# Altium footprint library ERM8-040-XX-X-D-RA_3D.PcbLib: 1 footprints
Each footprint in its own frame and in the unit in brackets; x right, y up, seen from the top. Pads: shape width x height; smd on the part's side, far side on the other; paste and mask are expansions set on the pad; w line width, h text height; cw(c..) or ccw(c..) is an arc to the next point about the centre after c.
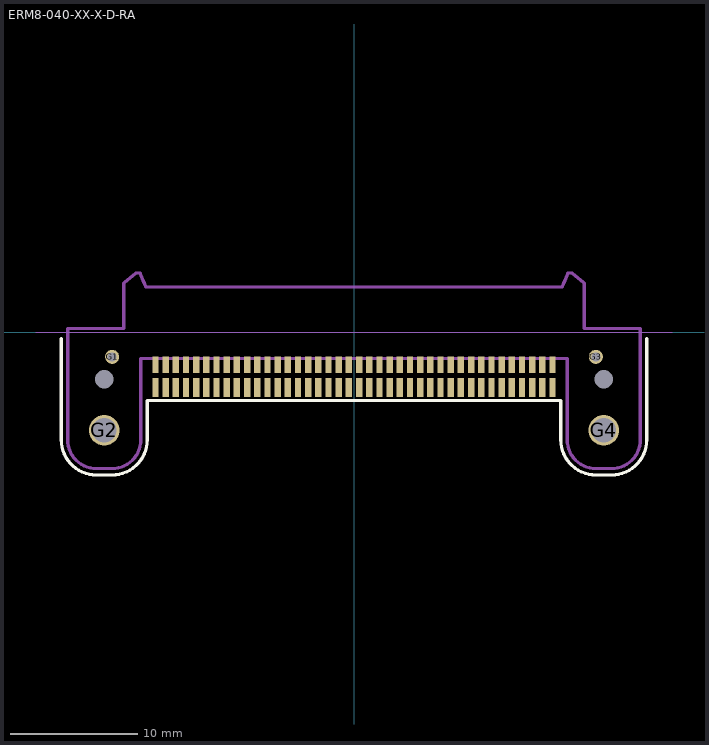
[diagram p0: the footprint, top view; thin cyan lines are the x and y axes]

## ERM8-040-XX-X-D-RA [mm]
pads (86):
  rect 0.5x1.3 smd mask+0.05: 1(-15.6,-2.54) 3(-14.8,-2.54) 5(-14,-2.54) 7(-13.2,-2.54) 9(-12.4,-2.54) 11(-11.6,-2.54) 13(-10.8,-2.54) 15(-10,-2.54) 17(-9.2,-2.54) 19(-8.4,-2.54) 21(-7.6,-2.54) 23(-6.8,-2.54) 25(-6,-2.54) 27(-5.2,-2.54) 29(-4.4,-2.54) 31(-3.6,-2.54) 33(-2.8,-2.54) 35(-2,-2.54) 37(-1.2,-2.54) 39(-0.4,-2.54) 41(0.4,-2.54) 43(1.2,-2.54) 45(2,-2.54) 47(2.8,-2.54) 49(3.6,-2.54) 51(4.4,-2.54) 53(5.2,-2.54) 55(6,-2.54) 57(6.8,-2.54) 59(7.6,-2.54) 61(8.4,-2.54) 63(9.2,-2.54) 65(10,-2.54) 67(10.8,-2.54) 69(11.6,-2.54) 71(12.4,-2.54) 73(13.2,-2.54) 75(14,-2.54) 77(14.8,-2.54) 79(15.6,-2.54)
  rect 0.5x1.52 smd mask+0.05: 2(-15.6,-4.33) 4(-14.8,-4.33) 6(-14,-4.33) 8(-13.2,-4.33) 10(-12.4,-4.33) 12(-11.6,-4.33) 14(-10.8,-4.33) 16(-10,-4.33) 18(-9.2,-4.33) 20(-8.4,-4.33) 22(-7.6,-4.33) 24(-6.8,-4.33) 26(-6,-4.33) 28(-5.2,-4.33) 30(-4.4,-4.33) 32(-3.6,-4.33) 34(-2.8,-4.33) 36(-2,-4.33) 38(-1.2,-4.33) 40(-0.4,-4.33) 42(0.4,-4.33) 44(1.2,-4.33) 46(2,-4.33) 48(2.8,-4.33) 50(3.6,-4.33) 52(4.4,-4.33) 54(5.2,-4.33) 56(6,-4.33) 58(6.8,-4.33) 60(7.6,-4.33) 62(8.4,-4.33) 64(9.2,-4.33) 66(10,-4.33) 68(10.8,-4.33) 70(11.6,-4.33) 72(12.4,-4.33) 74(13.2,-4.33) 76(14,-4.33) 78(14.8,-4.33) 80(15.6,-4.33)
  round 1.1 hole 0.7 mask+0.075: G1(-19,-1.92) G3(19,-1.92)
  round 2.41 hole 1.91 mask+0.075: G2(-19.625,-7.7) G4(19.625,-7.7)
  round 0 hole 1.45 unplated: MH1(-19.625,-3.7) MH2(19.625,-3.7)
Top Overlay:
  lines w0.254: -23,-0.5 -23,-8.45 ccw(c-20.25,-8.45) -20.25,-11.2 -19,-11.2 ccw(c-19,-8.45) -16.25,-8.45 -16.25,-5.35 16.25,-5.35 16.25,-8.45 ccw(c19,-8.45) 19,-11.2 20.25,-11.2 ccw(c20.25,-8.45) 23,-8.45 23,-0.5
Top Paste:
  region: 19.973,-1.92 19.94,-1.668 19.843,-1.433 19.688,-1.232 19.487,-1.077 19.252,-0.98 19,-0.947 18.748,-0.98 18.513,-1.077 18.312,-1.232 18.157,-1.433 18.06,-1.668 18.027,-1.92 18.06,-2.172 18.157,-2.407 18.312,-2.608 18.513,-2.763 18.748,-2.86 19,-2.893 19.252,-2.86 19.487,-2.763 19.688,-2.608 19.843,-2.407 19.94,-2.172
  region: 20.84,-7.7 20.799,-7.385 20.678,-7.092 20.484,-6.841 20.233,-6.647 19.94,-6.526 19.625,-6.485 19.31,-6.526 19.017,-6.647 18.766,-6.841 18.572,-7.092 18.451,-7.385 18.41,-7.7 18.451,-8.015 18.572,-8.308 18.766,-8.559 19.017,-8.753 19.31,-8.874 19.625,-8.915 19.94,-8.874 20.233,-8.753 20.484,-8.559 20.678,-8.308 20.799,-8.015
  region: -18.027,-1.92 -18.06,-1.668 -18.157,-1.433 -18.312,-1.232 -18.513,-1.077 -18.748,-0.98 -19,-0.947 -19.252,-0.98 -19.487,-1.077 -19.688,-1.232 -19.843,-1.433 -19.94,-1.668 -19.973,-1.92 -19.94,-2.172 -19.843,-2.407 -19.688,-2.608 -19.487,-2.763 -19.252,-2.86 -19,-2.893 -18.748,-2.86 -18.513,-2.763 -18.312,-2.608 -18.157,-2.407 -18.06,-2.172
  region: -18.41,-7.7 -18.451,-7.385 -18.572,-7.092 -18.766,-6.841 -19.017,-6.647 -19.31,-6.526 -19.625,-6.485 -19.94,-6.526 -20.233,-6.647 -20.484,-6.841 -20.678,-7.092 -20.799,-7.385 -20.84,-7.7 -20.799,-8.015 -20.678,-8.308 -20.484,-8.559 -20.233,-8.753 -19.94,-8.874 -19.625,-8.915 -19.31,-8.874 -19.017,-8.753 -18.766,-8.559 -18.572,-8.308 -18.451,-8.015
Mechanical 1:
  lines w0.254: -22.5,-8.45 ccw(c-20.25,-8.45) -20.25,-10.7 -19,-10.7 ccw(c-19,-8.45) -16.75,-8.45 -16.75,-2.05 16.75,-2.05 16.75,-8.45 ccw(c19,-8.45) 19,-10.7 20.25,-10.7 ccw(c20.25,-8.45) 22.5,-8.45 22.5,0.3 18.1,0.3 18.1,3.86 18.099,3.861 18.094,3.865 18.087,3.871 18.077,3.879 18.065,3.89 18.05,3.902 18.033,3.916 17.147,4.66 16.8,4.66 16.48,3.86 16.36,3.56 -16.36,3.56 -16.48,3.86 -16.8,4.66 -17.147,4.66 -18.033,3.916 -18.05,3.902 -18.065,3.89 -18.077,3.879 -18.087,3.871 -18.094,3.865 -18.099,3.861 -18.1,3.86 -18.1,0.3 -22.5,0.3 -22.5,-8.45
  text "J1" at -0.497,1.016 h0.76
Mechanical 16:
  lines w0.01: -25,0 25,0
3D body "ERM8-040-01-S-D-RA-L-TR.stp": height 6.3, standoff -1.63, extent -22.47,-10.65 22.53,4.71